# Altium footprint library MCP2515-I_SO.PcbLib: 1 footprints
Each footprint in its own frame and in the unit in brackets; x right, y up, seen from the top. Pads: shape width x height; smd on the part's side, far side on the other; paste and mask are expansions set on the pad; w line width, h text height; cw(c..) or ccw(c..) is an arc to the next point about the centre after c.
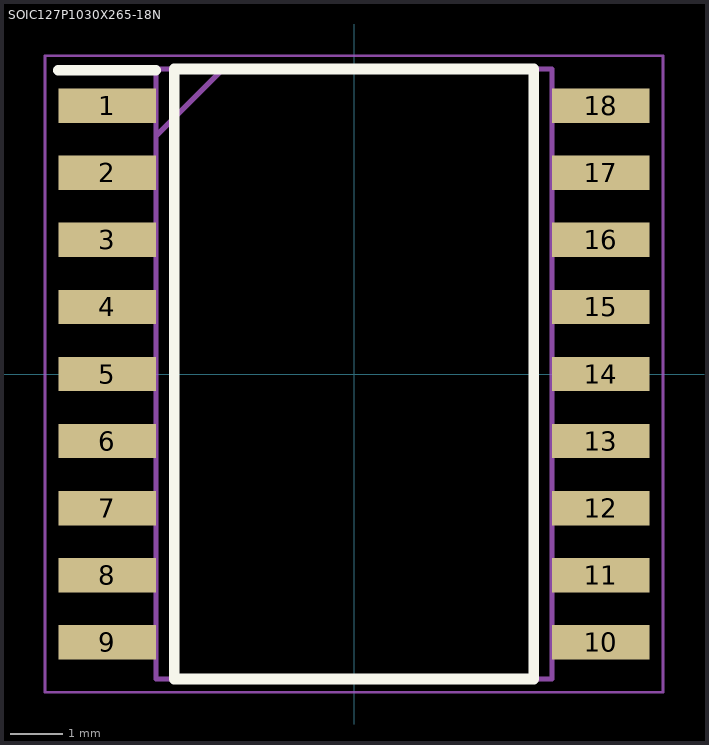
[diagram p0: the footprint, top view; thin cyan lines are the x and y axes]

## SOIC127P1030X265-18N [mm]
pads (18):
  rect 1.85x0.65 smd: 1(-4.675,5.08) 2(-4.675,3.81) 3(-4.675,2.54) 4(-4.675,1.27) 5(-4.675,0) 6(-4.675,-1.27) 7(-4.675,-2.54) 8(-4.675,-3.81) 9(-4.675,-5.08) 10(4.675,-5.08) 11(4.675,-3.81) 12(4.675,-2.54) 13(4.675,-1.27) 14(4.675,0) 15(4.675,1.27) 16(4.675,2.54) 17(4.675,3.81) 18(4.675,5.08)
Top Overlay:
  lines w0.2: -5.6,5.755 -3.75,5.755 ; -3.4,-5.775 -3.4,5.775 3.4,5.775 3.4,-5.775 -3.4,-5.775
Mechanical 13:
  lines w0.1: -3.75,4.505 -2.48,5.775 ; -3.75,-5.775 -3.75,5.775 3.75,5.775 3.75,-5.775 -3.75,-5.775
Mechanical 15:
  lines w0.05: -5.85,-6.025 -5.85,6.025 5.85,6.025 5.85,-6.025 -5.85,-6.025
3D body "MCP2515-I_SO.stp": height 2.65, standoff 0, extent -5.15,-5.775 5.15,5.775